# Altium footprint library MTGHOLE-106_NP.PcbLib: 1 footprints
Each footprint in its own frame and in the unit in brackets; x right, y up, seen from the top. Pads: shape width x height; smd on the part's side, far side on the other; paste and mask are expansions set on the pad; w line width, h text height; cw(c..) or ccw(c..) is an arc to the next point about the centre after c.
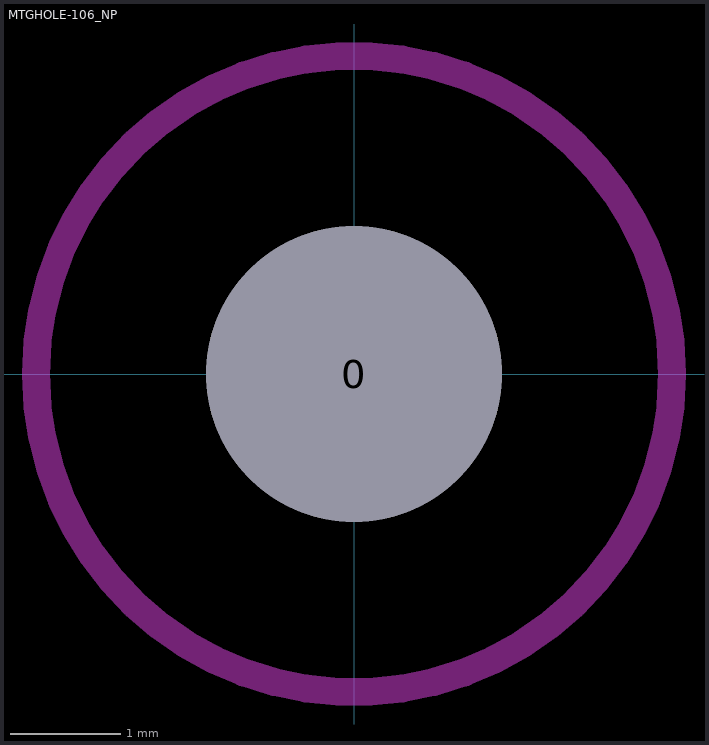
[diagram p0: the footprint, top view; thin cyan lines are the x and y axes]

## MTGHOLE-106_NP [mil] ".106\" diameter mounting hole, non-plated"
pads (1):
  round 106 hole 106 unplated mask+5: 0(0,0)
Keep-Out Layer:
  circle w10: c0,0 r114